# EAGLE library part TL7660 (library moth)
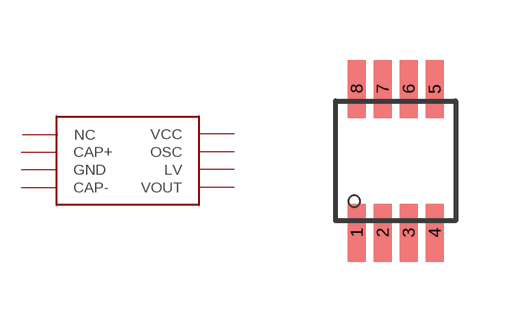
[diagram p5: symbol with the pads of S-PDSO-G8; footprint S-PDSO-G8]

Designator prefix -

## TL7660  [S-PDSO-G8]
1  NC  pwr
2  CAP+  pwr
3  GND  pwr
4  CAP-  pwr
5  VOUT  pwr
6  LV  pwr
7  OSC  pwr
8  VCC  pwr

## Footprint S-PDSO-G8 (pad centres in mm)
smd 0.45 x 1.45: 1 -0.975,-1.8; 2 -0.325,-1.8; 3 0.325,-1.8; 4 0.975,-1.8; 5 0.975,1.8; 6 0.325,1.8; 7 -0.325,1.8; 8 -0.975,1.8